# Altium schematic symbol library OpticalHardware.SchLib: 4 symbols
Pins are listed as number, name and electrical type; pins without a type are passive.

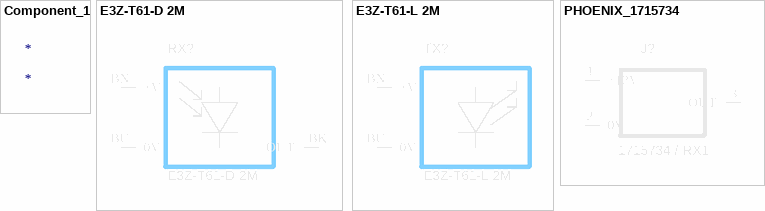
[diagram p0: symbols Component_1 to PHOENIX_1715734]

## Component_1
designator *

## E3Z-T61-D 2M
designator RX?  (mechanical)
RECEIVER / NPN LIGHT-ON; purchased in E3Z-T61 2M pair; frame-mounted, not PCB-mounted; Manufacturer: Omron; Populate: Yes; Intended footprint: NONE - external wired device; CAD status: Editable native device symbol. Manufacturer STEP download blocked; no substitute body; Cable: Integral 2 m cable; BN brown +V / BU blue 0V / receiver BK black OUT; Supply: 12-24 VDC nominal; use regulated 12 V; BOM note: Buy one E3Z-T61 2M pair per TX/RX pair, not two pairs; Manufacturer Part Number: E3Z-T61-D 2M; Package: EXTERNAL CABLED HEAD; Order as pair: E3Z-T61 2M; Body dimensions mm: 10.8 W x 31 H x 20 D; Mounting: Two M3 holes at 25.4 mm centres; optical face toward opposite upright; Datasheet: https://industrial.omron.eu/en/products/E3Z-T61-2M; 3D download: https://download.ia.omron.com/download/zip/ST/OEE/E3Z_T61/
pins: BK OUT, BN +V, BU 0V

## E3Z-T61-L 2M
designator TX?  (mechanical)
EMITTER; purchased in E3Z-T61 2M pair; frame-mounted, not PCB-mounted; Manufacturer: Omron; Populate: Yes; Intended footprint: NONE - external wired device; CAD status: Editable native device symbol. Manufacturer STEP download blocked; no substitute body; Cable: Integral 2 m cable; BN brown +V / BU blue 0V / receiver BK black OUT; Supply: 12-24 VDC nominal; use regulated 12 V; BOM note: Buy one E3Z-T61 2M pair per TX/RX pair, not two pairs; Manufacturer Part Number: E3Z-T61-L 2M; Package: EXTERNAL CABLED HEAD; Order as pair: E3Z-T61 2M; Body dimensions mm: 10.8 W x 31 H x 20 D; Mounting: Two M3 holes at 25.4 mm centres; optical face toward opposite upright; Datasheet: https://industrial.omron.eu/en/products/E3Z-T61-2M; 3D download: https://download.ia.omron.com/download/zip/ST/OEE/E3Z_T61/
pins: BN +V, BU 0V

## PHOENIX_1715734
designator J?, comment 1715734 / RX1
12V / GND / NPN signal terminal; Manufacturer: Phoenix Contact; Populate: Yes; Intended footprint: PHOENIX_1715734_MKDS_3_508; CAD status: Native pin-mapped footprint; KiCad STEP; verify physical sample before fabrication; Wiring: 1 brown +12V; 2 blue 0V; 3 black NPN output; Manufacturer Part Number: 1715734; Package: MKDS 1,5/3-5,08; Datasheet: https://www.phoenixcontact.com/en-us/products/printed-circuit-board-terminal-mkds-15-3-508-1715734
footprint PHOENIX_1715734_MKDS_3_508
pins: 1 +12V, 2 0V, 3 OUT